# EAGLE library part IR2106 (library mylib)
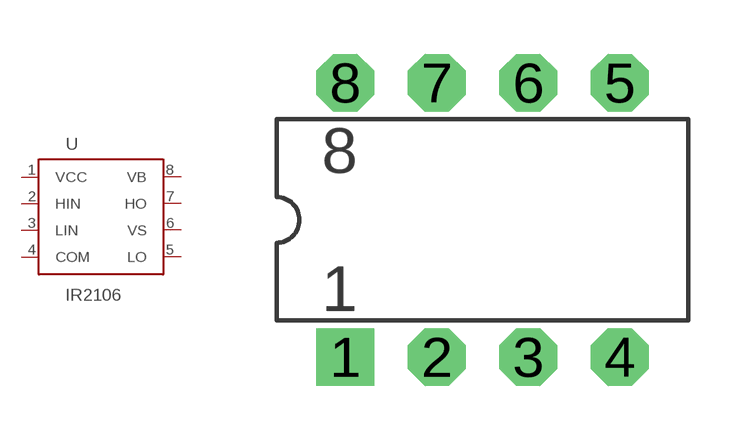
[diagram p2: symbol with the pads of IR2106; footprint IR2106]

Designator prefix -

## IR2106  [IR2106]
1  VCC
2  HIN
3  LIN
4  COM
5  LO
6  VS
7  HO
8  VB

## Footprint IR2106 (pad centres in mm)
drill 0.813 pad 1.6 square: 1 -3.81,-3.81
drill 0.813 pad 1.6 octagon: 2 -1.27,-3.81; 3 1.27,-3.81; 4 3.81,-3.81; 5 3.81,3.81; 6 1.27,3.81; 7 -1.27,3.81; 8 -3.81,3.81